# EAGLE library part GPS_ADAFRUIT (library QADT)
Adafruit GPS Footprint for Adafruit Ultimate GPS breakout board
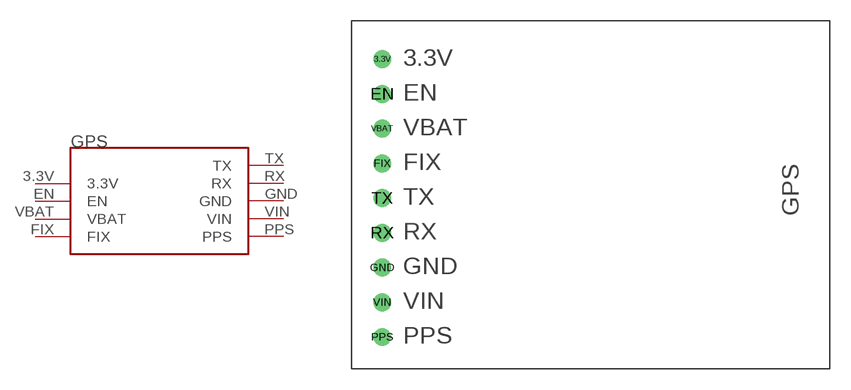
[diagram p9: symbol with the pads of GPS_ADAFRUIT; footprint GPS_ADAFRUIT]

Designator prefix G

## GPS_ADAFRUIT  [GPS_ADAFRUIT]
3.3V  3.3V
EN  EN
FIX  FIX
GND  GND
PPS  PPS
RX  RX
TX  TX
VBAT  VBAT
VIN  VIN

## Footprint GPS_ADAFRUIT (pad centres in mm)
drill 0.8: 3.3V -15.24,10.16; EN -15.24,7.62; FIX -15.24,2.54; GND -15.24,-5.08; PPS -15.24,-10.16; RX -15.24,-2.54; TX -15.24,0; VBAT -15.24,5.08; VIN -15.24,-7.62